# Altium footprint library MergenElektronik_CircuitProtections_Fuses.PcbLib: 18 footprints (part 2 of 2)
Each footprint in its own frame and in the unit in brackets; x right, y up, seen from the top. Pads: shape width x height; smd on the part's side, far side on the other; paste and mask are expansions set on the pad; w line width, h text height; cw(c..) or ccw(c..) is an arc to the next point about the centre after c.
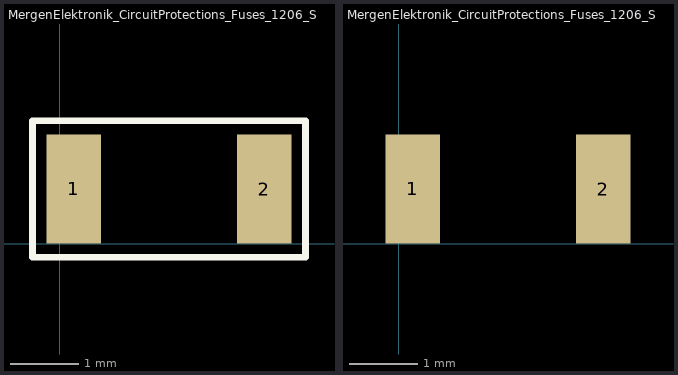
[diagram p1: the footprints below, top view; thin cyan lines are the x and y axes]

## MergenElektronik_CircuitProtections_Fuses_1206_S [mm] "1206 Small"
pads (2):
  rect 0.8x1.6 smd: 1(0.2,0.8) 2(3,0.8)
Top Overlay:
  lines w0.1: -0.4,-0.2 -0.4,0.55 -0.4,1.05 -0.4,1.8 3.6,1.8 3.6,-0.2 -0.4,-0.2
3D body "MergenElektronik_CircuitProtections_Fuses_1206.stp": height 0.55, standoff 0, extent 0,0.02 3.1,1.572

## MergenElektronik_CircuitProtections_Fuses_1206_S_NS [mm] "1206 Small - No Silkscreen"
pads (2):
  rect 0.8x1.6 smd: 1(0.2,0.8) 2(3,0.8)
3D body "MergenElektronik_CircuitProtections_Fuses_1206.stp": height 0.55, standoff 0, extent 0,0.02 3.1,1.572